# Altium footprint library PcbLib1.PcbLib: 2 footprints
Each footprint in its own frame and in the unit in brackets; x right, y up, seen from the top. Pads: shape width x height; smd on the part's side, far side on the other; paste and mask are expansions set on the pad; w line width, h text height; cw(c..) or ccw(c..) is an arc to the next point about the centre after c.
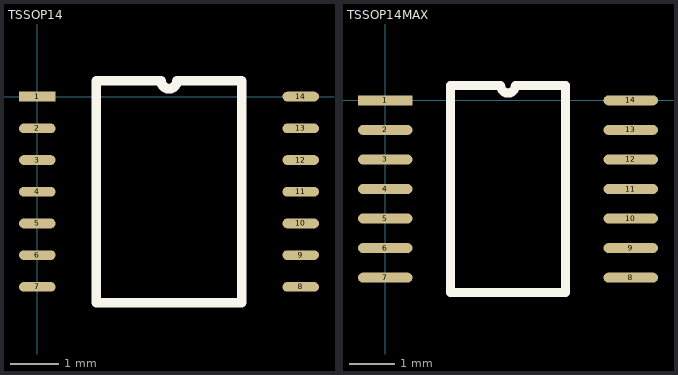
[diagram p0: the footprints below, top view; thin cyan lines are the x and y axes]

## TSSOP14 [mm]
pads (14):
  rect 0.75x0.2 smd: 1(0,0)
  oval 0.75x0.2 smd: 2(0,-0.65) 3(0,-1.3) 4(0,-1.95) 5(0,-2.6) 6(0,-3.25) 7(0,-3.9) 8(5.4,-3.9) 9(5.4,-3.25) 10(5.4,-2.6) 11(5.4,-1.95) 12(5.4,-1.3) 13(5.4,-0.65) 14(5.4,0)
Top Overlay:
  lines w0.2: 1.21,-4.225 1.21,0.325 2.538,0.325 ccw(c2.7,0.325) 2.862,0.325 4.19,0.325 4.19,-4.225 1.21,-4.225
3D body "User Library-TSSOP-14.STEP": height 1.2, standoff 0, extent -0.48,-4.44 5.92,0.56

## TSSOP14MAX [mm]
pads (14):
  rect 1.2x0.22 smd: 1(0,0)
  oval 1.2x0.22 smd: 2(0,-0.65) 3(0,-1.3) 4(0,-1.95) 5(0,-2.6) 6(0,-3.25) 7(0,-3.9) 8(5.4,-3.9) 9(5.4,-3.25) 10(5.4,-2.6) 11(5.4,-1.95) 12(5.4,-1.3) 13(5.4,-0.65) 14(5.4,0)
Top Overlay:
  lines w0.2: 1.435,-4.225 3.965,-4.225 3.965,0.325 2.862,0.325 cw(c2.7,0.325) 2.538,0.325 1.435,0.325 1.435,-4.225
3D body "User Library-TSSOP-14.STEP": height 1.2, standoff 0, extent -0.52,-4.48 5.88,0.52